# Altium footprint library SON65P400X300X80-9N.PcbLib: 1 footprints
Each footprint in its own frame and in the unit in brackets; x right, y up, seen from the top. Pads: shape width x height; smd on the part's side, far side on the other; paste and mask are expansions set on the pad; w line width, h text height; cw(c..) or ccw(c..) is an arc to the next point about the centre after c.
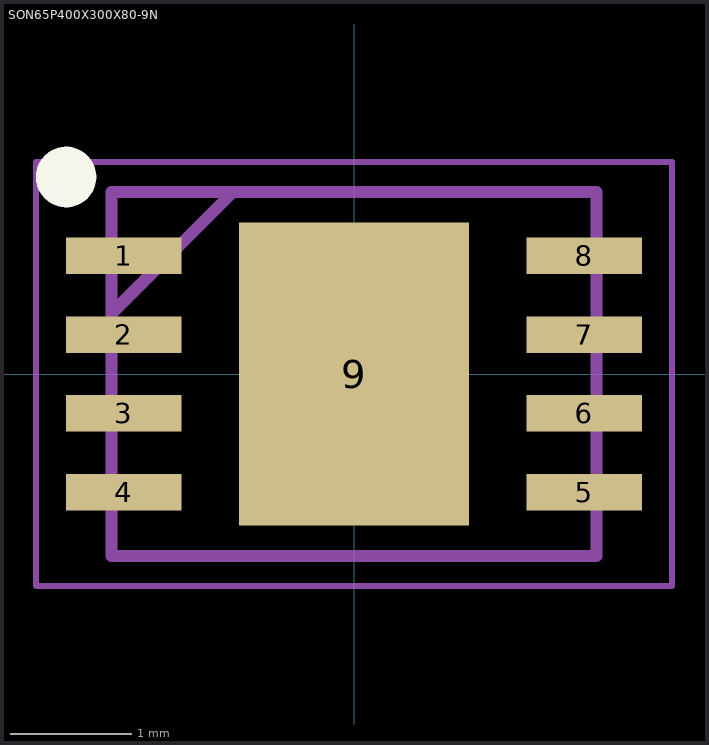
[diagram p0: the footprint, top view; thin cyan lines are the x and y axes]

## SON65P400X300X80-9N [mm]
pads (9):
  rect 0.95x0.3 smd: 1(-1.9,0.975) 2(-1.9,0.325) 3(-1.9,-0.325) 4(-1.9,-0.975) 5(1.9,-0.975) 6(1.9,-0.325) 7(1.9,0.325) 8(1.9,0.975)
  rect 1.9x2.5 smd: 9(0,0)
Top Overlay:
  circle w0.25: c-2.375,1.625 r0.125
Mechanical 15:
  lines w0.1: -2,0.5 -1,1.5 ; -2,-1.5 -2,1.5 2,1.5 2,-1.5 -2,-1.5
Mechanical 20:
  lines w0.05: -2.625,-1.75 -2.625,1.75 2.625,1.75 2.625,-1.75 -2.625,-1.75
3D body "LC709203FQH-01TWG.stp": height 0.8, standoff 0, extent -2.032,-1.5 2.068,1.5